# Altium schematic symbol library OPA1612AIDRGR.SchLib: 1 symbol
Pins are listed as number, name and electrical type; pins without a type are passive.

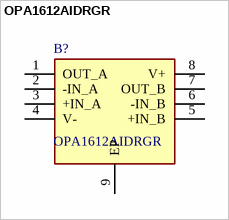
[diagram p0: symbol OPA1612AIDRGR]

## OPA1612AIDRGR
designator B?
SoundPlus Audio Operational Amplifier with 1.1nV/Hz Noise, Low THD and Precision; Manufacturer_Name: Texas Instruments; Geometry.Height: 0.8mm; Manufacturer_Part_Number: OPA1612AIDRGR; Mouser Part Number: 595-OPA1612AIDRGR; Mouser Price/Stock: https://www.mouser.co.uk/ProductDetail/Texas-Instruments/OPA1612AIDRGR?qs=m1T3c8F5IUKK0sm07a9upg%3D%3D; Arrow Part Number: OPA1612AIDRGR; Arrow Price/Stock: https://www.arrow.com/en/products/opa1612aidrgr/texas-instruments?utm_currency=USD&region=nac; Datasheet Link: http://www.ti.com/lit/ds/symlink/opa1612.pdf
footprint SON50P300X300X80-9N-D
pins: 1 OUT_A, 2 -IN_A, 3 +IN_A, 4 V-, 5 +IN_B, 6 -IN_B, 7 OUT_B, 8 V+, 9 EP